# Altium schematic symbol library PowerSO-20.SchLib: 1 symbol
Pins are listed as number, name and electrical type; pins without a type are passive.

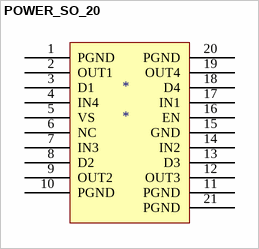
[diagram p0: symbol POWER_SO_20]

## POWER_SO_20
designator *
footprint POWERSO-20_L15.9-W11.0-P1.27-LS14.2-BL-EP
pins: 1 PGND, 2 OUT1, 3 D1, 4 IN4, 5 VS, 6 NC, 7 IN3, 8 D2, 9 OUT2, 10 PGND, 11 PGND, 12 OUT3, 13 D3, 14 IN2, 15 GND, 16 EN, 17 IN1, 18 D4, 19 OUT4, 20 PGND, 21 PGND